# EAGLE library part WSL20 (library Wannenstiftleisten)
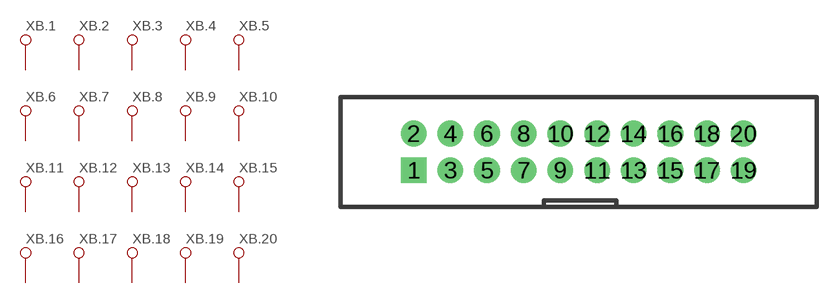
[diagram p0: symbol with the pads of WSL20; footprint WSL20]

Designator prefix XB; gates .1=PIN .2=PIN .3=PIN .4=PIN .5=PIN .6=PIN .7=PIN .8=PIN .9=PIN .10=PIN .11=PIN .12=PIN .13=PIN .14=PIN .15=PIN .16=PIN .17=PIN .18=PIN .19=PIN .20=PIN

## WSL20  [WSL20]
1  .1:.1
2  .2:.1
3  .3:.1
4  .4:.1
5  .5:.1
6  .6:.1
7  .7:.1
8  .8:.1
9  .9:.1
10  .10:.1
11  .11:.1
12  .12:.1
13  .13:.1
14  .14:.1
15  .15:.1
16  .16:.1
17  .17:.1
18  .18:.1
19  .19:.1
20  .20:.1

## Footprint WSL20 (pad centres in mm)
drill 0.8 pad 1.778 square: 1 -10.16,-1.27
drill 0.8 pad 1.778: 2 -10.16,1.27; 3 -7.62,-1.27; 4 -7.62,1.27; 5 -5.08,-1.27; 6 -5.08,1.27; 7 -2.54,-1.27; 8 -2.54,1.27; 9 0,-1.27; 10 0,1.27; 11 2.54,-1.27; 12 2.54,1.27; 13 5.08,-1.27; 14 5.08,1.27; 15 7.62,-1.27; 16 7.62,1.27; 17 10.16,-1.27; 18 10.16,1.27; 19 12.7,-1.27; 20 12.7,1.27